# Altium footprint library Connectors.PcbLib: 89 footprints (part 6 of 6)
Each footprint in its own frame and in the unit in brackets; x right, y up, seen from the top. Pads: shape width x height; smd on the part's side, far side on the other; paste and mask are expansions set on the pad; w line width, h text height; cw(c..) or ccw(c..) is an arc to the next point about the centre after c.
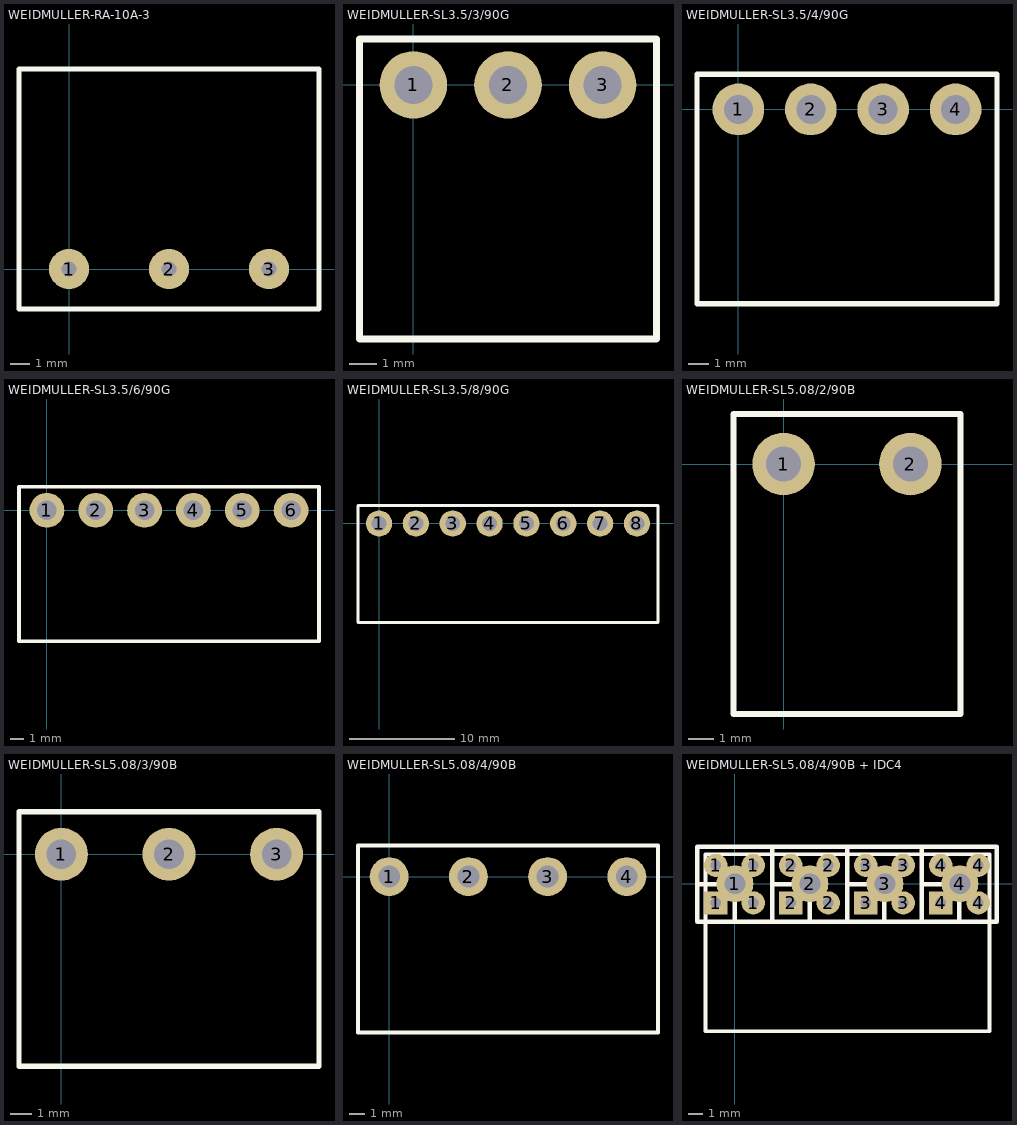
[diagram p5: the footprints below, top view; thin cyan lines are the x and y axes]

## WEIDMULLER-RA-10A-3 [mil]
pads (3):
  round 80 hole 30: 1(0,0) 2(200,0) 3(400,0)
TopOverlay:
  lines w10: -100,-80 -100,400 500,400 500,-80 -100,-80

## WEIDMULLER-SL3.5/3/90G [mm]
pads (3):
  round 2.5 hole 1.4: 1(0,0) 2(3.5,0) 3(7,0)
TopOverlay:
  lines w0.254: -2,-9.4 -2,1.7 9,1.7 9,-9.4 -2,-9.4

## WEIDMULLER-SL3.5/4/90G [mm]
height 5
pads (4):
  round 2.5 hole 1.4: 1(0,0) 2(3.5,0) 3(7,0) 4(10.5,0)
TopOverlay:
  lines w0.254: -2,-9.4 12.5,-9.4 12.5,1.7 -2,1.7 -2,-9.4

## WEIDMULLER-SL3.5/6/90G [mm]
pads (6):
  round 2.5 hole 1.4: 1(0,0) 2(3.5,0) 3(7,0) 4(10.5,0) 5(14,0) 6(17.5,0)
TopOverlay:
  lines w0.254: -2,-9.4 -2,1.7 19.5,1.7 19.5,-9.4 -2,-9.4

## WEIDMULLER-SL3.5/8/90G [mm]
pads (8):
  round 2.5 hole 1.4: 1(0,0) 2(3.5,0) 3(7,0) 4(10.5,0) 5(14,0) 6(17.5,0) 7(21,0) 8(24.5,0)
TopOverlay:
  lines w0.254: -2,-9.4 26.5,-9.4 26.5,1.7 -2,1.7 -2,-9.4

## WEIDMULLER-SL5.08/2/90B [mm]
pads (2):
  round 2.5 hole 1.4: 1(0,0) 2(5.08,0)
TopOverlay:
  lines w0.254: -2,-10 -2,2 7.08,2 7.08,-10 -2,-10

## WEIDMULLER-SL5.08/3/90B [mm]
pads (3):
  round 2.5 hole 1.4: 1(0,0) 2(5.08,0) 3(10.16,0)
TopOverlay:
  lines w0.254: -2,-10 12.16,-10 12.16,2 -2,2 -2,-10

## WEIDMULLER-SL5.08/4/90B [mm]
pads (4):
  round 2.5 hole 1.4: 1(0,0) 2(5.08,0) 3(10.16,0) 4(15.24,0)
TopOverlay:
  lines w0.254: -2,-10 17.24,-10 17.24,2 -2,2 -2,-10

## WEIDMULLER-SL5.08/4/90B + IDC4 [mil]
pads (20):
  rect 62x62 hole 28: 1(-51.18,-51.18) 2(148.82,-51.18) 3(348.82,-51.18) 4(548.82,-51.18)
  round 62 hole 28: 1(-51.18,48.82) 1(48.82,-51.18) 1(48.82,48.82) 2(148.82,48.82) 2(248.82,-51.18) 2(248.82,48.82) 3(348.82,48.82) 3(448.82,-51.18) 3(448.82,48.82) 4(548.82,48.82) 4(648.82,-51.18) 4(648.82,48.82)
  round 98.43 hole 55.12: 1(0,0) 2(200,0) 3(400,0) 4(600,0)
TopOverlay:
  lines w10: -78.74,-393.7 -78.74,78.74 678.74,78.74 678.74,-393.7 -78.74,-393.7
  lines w12: -101.18,-1.18 -1.18,-1.18 -1.18,-101.18 ; 98.82,-1.18 198.82,-1.18 198.82,-101.18 ; 298.82,-1.18 398.82,-1.18 398.82,-101.18 ; 498.82,-1.18 598.82,-1.18 598.82,-101.18 ; 98.82,-101.18 98.82,98.82 ; 98.82,-101.18 298.82,-101.18 ; 98.82,-101.18 -101.18,-101.18 -101.18,98.82 98.82,98.82 ; 98.82,-101.18 98.82,98.82 ; 98.82,98.82 298.82,98.82 ; 298.82,-101.18 298.82,98.82 ; 298.82,-101.18 498.82,-101.18 ; 298.82,-101.18 298.82,98.82 ; 298.82,98.82 498.82,98.82 ; 498.82,-101.18 498.82,98.82 ; 498.82,-101.18 698.82,-101.18 698.82,98.82 498.82,98.82 ; 498.82,-101.18 498.82,98.82